# Altium schematic symbol library INA240A3EDRQ1.Schlib: 1 symbol
Pins are listed as number, name and electrical type; pins without a type are passive.

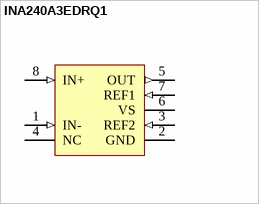
[diagram p0: symbol INA240A3EDRQ1]

## INA240A3EDRQ1
designator U?, comment Current Sense w/ PWM Rejection
Current Sense Amplifier 1 Circuit - 8-SOIC
footprint 8-SOIC
pins: 1 IN- (in), 2 GND (power), 3 REF2 (in), 4 NC, 5 OUT (out), 6 VS (power), 7 REF1 (in), 8 IN+ (in)